# EAGLE library part ACS712 (library iceberg20)
Stromsensor AC/DC, 5 V Datenblatt: Link <https://cdn-reichelt.de/documents/datenblatt/A200/ACS712.pdf>
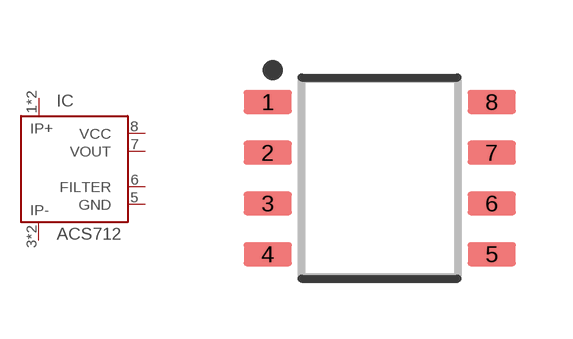
[diagram p10: symbol with the pads of SOIC-8; footprint SOIC-8]

Designator prefix IC

## ACS712ACS712-SOIC-8 (BESTAND: ?; HERSTELLER: ALLEGRO; HERSTELLER-NR: ACS712ELCTR-05B-T; SUPPLIER: reichelt; SUPPLIER-NR: ACS712 ELCTR-05)  [SOIC-8]
1  IP+  pas
2  IP+  pas
3  IP-  pas
4  IP-  pas
5  GND  pwr
6  FILTER  pas
7  VOUT  out
8  VCC  pwr

## Footprint SOIC-8 (pad centres in mm)
8-SOIC, 1.27 mm pitch, 6 mm span, 4.9 X 3.9 X 1.75 mm body 8-pin SOIC package with 1.27 mm pitch, 6 mm span with body size 4.9 X 3.9 X 1.75 mm
smd 1.212 x 0.599: 1 -2.8,1.905; 2 -2.8,0.635; 3 -2.8,-0.635; 4 -2.8,-1.905; 5 2.8,-1.905; 6 2.8,-0.635; 7 2.8,0.635; 8 2.8,1.905